# Altium schematic symbol library cap_0603.SchLib: 1 symbol
Pins are listed as number, name and electrical type; pins without a type are passive.

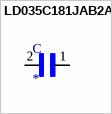
[diagram p0: symbol LD035C181JAB2A]

## LD035C181JAB2A
designator C
CAP CER SMD; MP: LD035C181JAB2A; MF: AVX; SnapEDA_Link: https://www.snapeda.com/parts/LD035C181JAB2A/AVX/view-part/2034489/?ref=snap; Price: None; Availability: Unavailable; Package: 0603 AVX; Value: *
footprint CAPC1608X90
pins: 1, 2